# Altium footprint library max30102.PcbLib: 1 footprints
Each footprint in its own frame and in the unit in brackets; x right, y up, seen from the top. Pads: shape width x height; smd on the part's side, far side on the other; paste and mask are expansions set on the pad; w line width, h text height; cw(c..) or ccw(c..) is an arc to the next point about the centre after c.
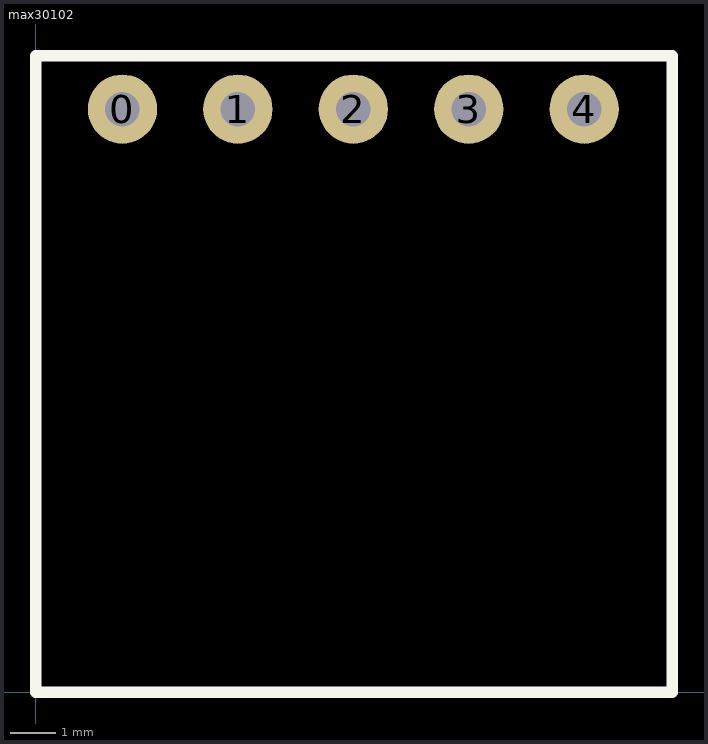
[diagram p0: the footprint, top view; thin cyan lines are the x and y axes]

## max30102 [mil]
pads (5):
  round 60 hole 30: 0(75,505) 1(175,505) 2(275,505) 3(375,505) 4(475,505)
Top Overlay:
  lines w10: 0,0 0,551.18 551.18,551.18 551.18,0 0,0